# Altium schematic symbol library Capacitors.SchLib: 4 symbols
Pins are listed as number, name and electrical type; pins without a type are passive.

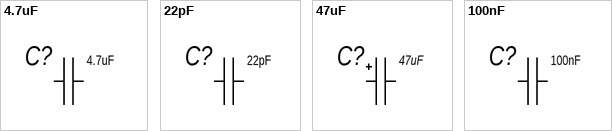
[diagram p0: symbols 4.7uF to 100nF]

## 4.7uF
designator C?
Конденсатор номиналом 4.7 uF
footprint SMD 0805 (Chip Capacitor, 2-Leads, Body 2,00x1,25mm, IPC Medium Density)
pins: 1, 2

## 22pF
designator C?
Конденсатор номиналом 22 pF
footprint SMD 0805 (Chip Capacitor, 2-Leads, Body 2,00x1,25mm, IPC Medium Density)
pins: 1, 2

## 47uF
designator C?
Электролитический конденсатор номиналом 47uF
pins: 1, 2

## 100nF
designator C?
Конденсатор номиналом 1.5 nF
footprint SMD 0805 (Chip Capacitor, 2-Leads, Body 2,00x1,25mm, IPC Medium Density)
pins: 1, 2